# Altium schematic symbol library OltestLib.SchLib: 128 symbols (part 2 of 2)
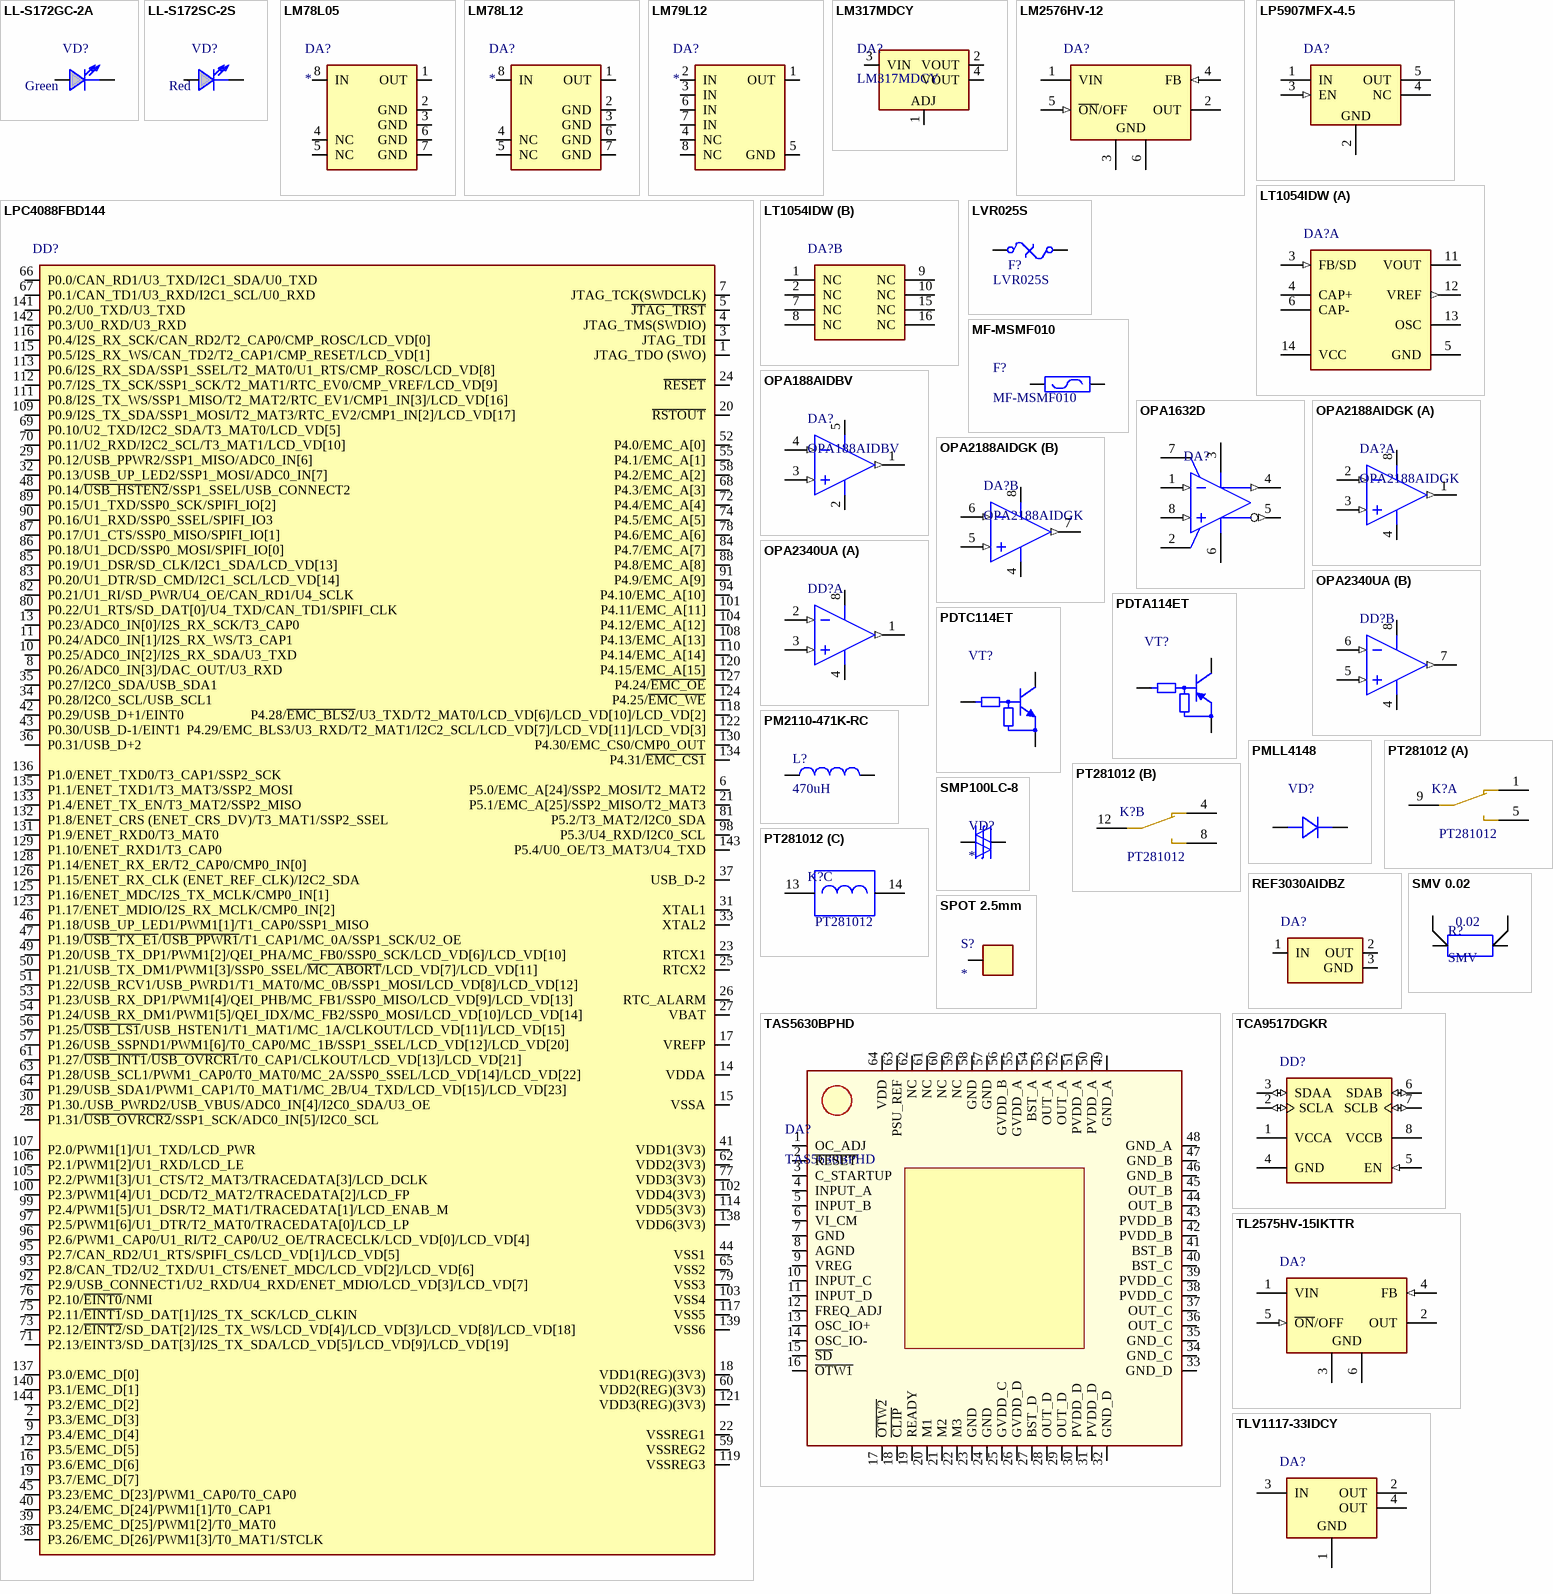
[diagram p5: symbols LL-S172GC-2A to TLV1117-33IDCY]

## PDTA114ET
designator VT?
Digital Transistor (BRT), R1=10 kOhm, R2=10 kOhm, PNP Transistor; Manufacturer: NXP; PartNumber: PDTA114ET
footprint SOT-23-3 (SOT23, 3-Leads, Body 2.92x1.3mm, Pitch 0.95mm)
pins: 1 B, 2 E, 3 C

## PDTC114ET
designator VT?
Digital Transistor (BRT), R1=10 kOhm, R2=10 kOhm, NPN Transistor; Manufacturer: On Semiconductor; PartNumber: PDTC114ET
footprint SOT-23-3 (SOT23, 3-Leads, Body 2.92x1.3mm, Pitch 0.95mm)
pins: 1 B, 2 E, 3 C

## PM2110-471K-RC
designator L?, comment 470uH
SMD Power Inductor; Manufacturer: BOURNS; PartNumber: PM2110-471K-RC; Value: 470uH
footprint PM2110
pins: 1, 2

## PMLL4148
designator VD?  (value not drawn)
If=0.2A, Vf=1V Vrrm=100V Diode (SOD80C); Manufacturer: NXP Semiconductors; PartNumber: PMLL4148
footprint SOD80C (MELF Diode, 2-Leads, Body 3,50x1,53mm, IPC Low Density)
pins: 1 ANODE, 2 CATHODE

## PT281012
designator K?
400VAC 12A DPDT 12VDC; PartNumber: 8-1415005-1; Manufacturer: TE Connectivity; Value: PT281012
footprint PT281024
part A pins: 1, 5, 9
part B pins: 4, 8, 12
part C pins: 13, 14
1 alternate drawing of the same symbol

## REF3030AIDBZ
designator DA?
3.0 V, 50 ppm / degC, 50 uA Series (Bandgap) Voltage Reference, -40 to 125 degC, 3-pin SOT-23 (DBZ); Manufacturer: Texas Instruments; PartNumber: REF3030AIDBZR
footprint TI-DBZ3_N (SOT23, 3-Leads, Body 2.92x1.3 mm, Pitch 0.95 mm, IPC Medium Density)
pins: 1 IN (power), 2 OUT (power), 3 GND (power)

## SMP100LC-8
designator VD?
SMP100LC-8; Manufacturer: ST; PartNumber: SMP100LC-8
footprint SMP100LC (SODFL, 2-Leads, Body 3,63x5,35mm, IPC Low Density)
pins: 1, 2

## SMV 0.02
designator R?, comment SMV  value 0.02
SMV 5W R020 1% 30ppm; PartNumber: SMV-R020-1.0; Manufacturer: ISABELLENHUETTE
footprint SMV
pins: 1, 2, 3, 4

## SPOT 2.5mm
designator S?
Spot d=2.5mm
footprint SPOT
pins: 1

## TAS5630BPHD
designator DA?
Power amplifier 2x300 W class-D; Manufacturer: Texas Instruments; PartNumber: TAS5630BPHD
footprint TI-PHD64_M (QFP, 64-Leads, Body 14x14mm, Pitch 0.8mm, IPC Low Density)
pins: 1 OC_ADJ, 2 ~{RESET}, 3 C_STARTUP, 4 INPUT_A, 5 INPUT_B, 6 VI_CM, 7 GND, 8 AGND, 9 VREG, 10 INPUT_C, 11 INPUT_D, 12 FREQ_ADJ, 13 OSC_IO+, 14 OSC_IO-, 15 ~{SD}, 16 ~{OTW1}, 17 ~{OTW2}, 18 ~{CLIP}, 19 READY, 20 M1, 21 M2, 22 M3, 23 GND, 24 GND, 25 GVDD_C, 26 GVDD_D, 27 BST_D, 28 OUT_D, 29 OUT_D, 30 PVDD_D, 31 PVDD_D, 32 GND_D, 33 GND_D, 34 GND_C, 35 GND_C, 36 OUT_C, 37 OUT_C, 38 PVDD_C, 39 PVDD_C, 40 BST_C, 41 BST_B, 42 PVDD_B, 43 PVDD_B, 44 OUT_B, 45 OUT_B, 46 GND_B, 47 GND_B, 48 GND_A, 49 GND_A, 50 PVDD_A, 51 PVDD_A, 52 OUT_A, 53 OUT_A, 54 BST_A, 55 GVDD_A, 56 GVDD_B, 57 GND, 58 GND, 59 NC, 60 NC, 61 NC, 62 NC, 63 PSU_REF, 64 VDD

## TCA9517DGKR
designator DD?
Level-Shifting I 2C Bus Repeater; PartNumber: TCA9517DGKR; Manufacturer: Texas Instruments
footprint DGK8_M (TSOP, 8-Leads, Body 3x3mm, Pitch 0.65mm, IPC Low Density)
pins: 1 VCCA (power) "A-side supplyVoltage (0.9V to VCCB - 1V)", 2 SCLA (io) "Serial clock bus, A side.", 3 SDAA (io) "Serial data bus, A side.", 4 GND (power) "Supply ground", 5 EN (in) "Active-high repeater enable input", 6 SDAB (io) "Serial data bus, B side. Connect to VCCB through a pullup resistor.", 7 SCLB (io) "Serial clock bus, B side. Connect to VCCB through a pullup resistor.", 8 VCCB (power) "B-side and device supplyVoltage (2.7V to 5.5V)"

## TL2575HV-15IKTTR
designator DA?
Buck Step Down Regulator with 4.75 to 60 V Input and 12 V Output, -40 to 125 degC, 5-Pin DDPAK/TO-263 (KTT), Green (RoHS & no Sb/Br); Manufacturer: Texas Instruments; PartNumber: TL2575HV-15IKTTR
footprint KTT5_M (D2-PAK, 6-Leads, Body 8.9x10.2mm, Pitch 1.7mm, Lead Span 15.2mm, IPC Low Density)
pins: 1 VIN (power), 2 OUT (power), 3 GND (power), 4 FB (in), 5 ~{ON}/OFF (in), 6 GND (power)

## TLV1117-33IDCY
designator DA?
Low-Dropout Voltage Regulator, 3.3V 0.8A Output, 4-pin SOT-223 (DCY); Manufacturer: Texas Instruments; PartNumber: TLV1117LV33DCYR
footprint TI-DCY4_M (SOT223, 4-Leads, Body 6.5x3.5mm, Pitch 2.3mm, IPC Low Density)
pins: 1 GND (power) "Ground pin", 2 OUT (power) "Regulated output voltage pin.", 3 IN (power) "Input pin.", 4 OUT (power) "Regulated output voltage pin."

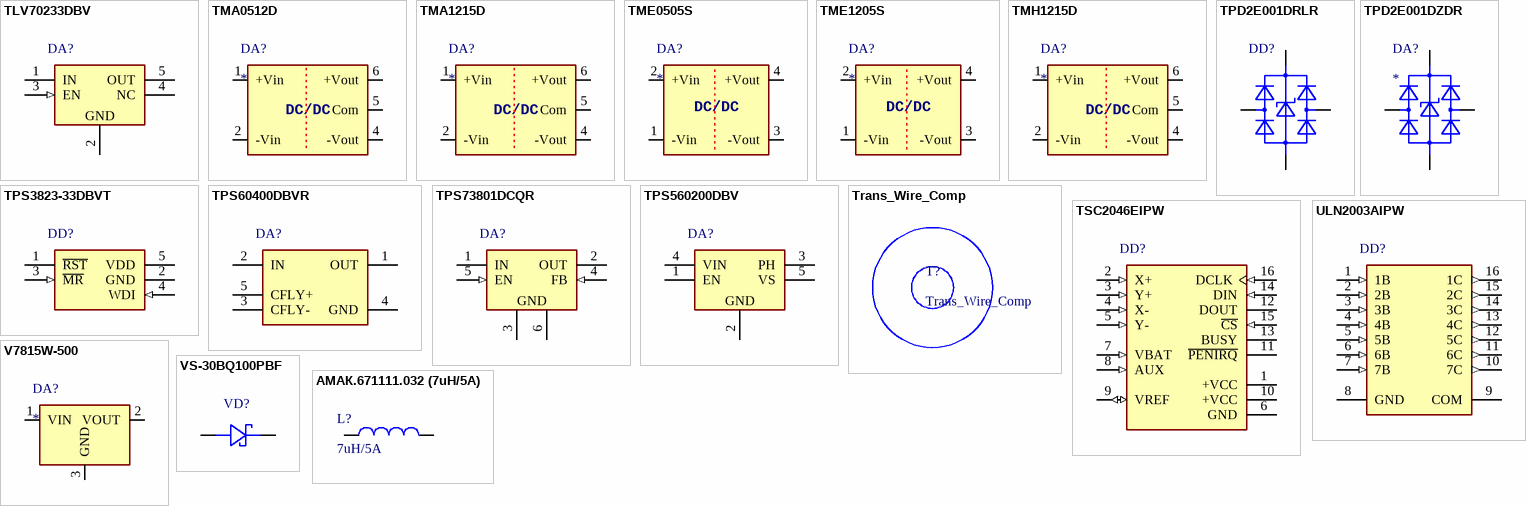
[diagram p4: symbols TLV70233DBV to АМАК.671111.032 (7uH/5A)]

## TLV70233DBV
designator DA?
Single Output LDO, 300 mA, Fixed 3.3 V Output, 2 to 5.5 V Input; Manufacturer: Texas Instruments; PartNumber: TLV70233DBV
footprint TI-DBV5_M (SOT23, 5-Leads, Body 2.9x1.6mm, Pitch 0.95mm, IPC Low Density)
pins: 1 IN (power) "Input supply voltage", 2 GND (power) "Ground", 3 EN (in) "Enable input", 4 NC "No connected", 5 OUT (power) "Regulated output voltage"

## TMA0512D
designator DA?
DC/DC; PartNumber: TMA 0512D; Manufacturer: TRACO POWER
footprint SIP6 12456
pins: 1 +Vin, 2 -Vin, 4 -Vout, 5 Com, 6 +Vout

## TMA1215D
designator DA?
DC/DC; PartNumber: TMA 1215D; Manufacturer: TRACO POWER
footprint SIP6 12456
pins: 1 +Vin, 2 -Vin, 4 -Vout, 5 Com, 6 +Vout

## TME0505S
designator DA?
DC/DC; Manufacturer: TRACO POWER; PartNumber: TME 0505S
footprint SIP4
pins: 1 -Vin, 2 +Vin, 3 -Vout, 4 +Vout

## TME1205S
designator DA?
DC/DC; Manufacturer: TRACO POWER; PartNumber: TME 1205S
footprint SIP4
pins: 1 -Vin, 2 +Vin, 3 -Vout, 4 +Vout

## TMH1215D
designator DA?
DC/DC 2W; PartNumber: TMH 1215D; Manufacturer: TRACO POWER
footprint SIP6 12456 2W
pins: 1 +Vin, 2 -Vin, 4 -Vout, 5 Com, 6 +Vout
text: DC/DC

## TPD2E001DRLR
designator DD?
Low-Capacitance + / - 15 kV ESD-Protection Array for High-Speed Data Interfaces, 2 Channels, -40 to +85 degC, 5-pin SOT (DRL), Green (RoHS & no Sb/Br); Manufacturer: Texas Instruments; PartNumber: TPD2E001DRLR
footprint DRL5_M (SOTFL, 5-Flat Leads, Body 1.2x1.6x0.6mm, Pitch 0.5mm, IPC Low Density)
pins: 1 VCC (power), 3 IO1, 4 GND (power), 5 IO2

## TPD2E001DZDR
designator DA?
2-Channel ESD-Protection for High-Speed Data Interfaces; PartNumber: TPD2E001DZDR; Manufacturer: Texas Instruments
footprint DZD
pins: 1 (power), 2, 3, 4 (power)

## TPS3823-33DBVT
designator DD?
Supervisor with Watchdog; Manufacturer: Texas Instruments; PartNumber: TPS3823-33DBVT
footprint TI-DBV5_N (SOT23, 5-Leads, Body 2.9x1.6mm, Pitch 0.95mm, IPC Medium Density)
pins: 1 ~{RST} (oc) "Open-drain reset output", 2 GND (power) "Ground", 3 ~{MR} (in) "Programmable watchdog delay input", 4 WDI (in) "Watchdog timer input. This input must be driven at all times and not left floating.", 5 VDD (power) "Selectable watchdog window ratio input. This input must be tied to VDD or GND and not left floating."

## TPS60400DBVR
designator DA?
-1.8 to -5.25 V, Inverting Charge Pump, 60 mA, 1.8 to 5.25 V Input with 2-Cell Alkaline / Nixx Input, -40 to 85 degC, 5-pin SOT23 (DBV5), Green (RoHS & no Sb/Br); Manufacturer: Texas Instruments; PartNumber: TPS60400DBVR; 2-Cell Alkaline/Nixx Input: TRUE; Efficiency(Typ)(%): 99; Iout(Max)(A): 0.06; Iq(Typ)(mA): 0.125; Switching Frequency(Max)(kHz): 450; Topology: Inverting Buck/Boost; Vin(Max)(V): 5.25; Vin(Min)(V): 1.8; Vout(Min)(V): -1.6; DatasheetVersion: SLVS324A; PackageVersion: 4073253-4/K; PackageReference: DBV5; PackageDescription: 5-Pin Plastic Small Outline, Body 1.60 Г— 2.90 mm, Pitch 0.95 mm; Eco-Plan: Green (RoHS & no Sb/Br); Vout(Max)(V): -5.25; Mounting Technology: Surface Mount; Code_JEDEC: MO-178; ComponentLink1Description: Manufacturer URL; ComponentLink1URL: http://www.ti.com/; ComponentLink2Description: Datasheet; ComponentLink2URL: http://www.ti.com/general/docs/lit/getliterature.tsp?genericPartNumber=TPS60400&fileType=pdf; ComponentLink3Description: Package Specification; ComponentLink3URL: http://www.ti.com/litv/pdf/mpds018i
footprint TI-DBV5_N (SOT23, 5-Leads, Body 2.9x1.6mm, Pitch 0.95mm, IPC Medium Density)
pins: 1 OUT (power) "Power output with VO = -VI Bypass OUT to GND with the output filter capacitor CO.", 2 IN (power) "Supply input. Connect to an input supply in the 1.6-V to 5.5-V range. Bypass IN to GND with a capacitor that has the same value as the flying capacitor.", 3 CFLY- "Negative terminal of the flying capacitor C(fly)", 4 GND (power) "Ground", 5 CFLY+ "Positive terminal of the flying capacitor C(fly)"

## TPS73801DCQR
designator DA?
1A Low Noise, Low-Dropout Linear Regulator; Manufacturer: Texas Instruments; PartNumber: TPS73801DCQR
footprint TI-DCQ6_M (SOT223, 6-Leads, Body 6.5x3.5mm, Pitch 1.27mm, IPC Low Density)
pins: 1 IN (power) "Input. Power is supplied to the device through the IN pin. A bypass capacitor is required on this pin if the device is more than six inches away from the main input filter capacitor. In general, the output impedance of a (See Datasheet)", 2 OUT (power) "Output. The output supplies power to the load. A minimum output capacitor (ceramic) of 10 uF is required to prevent oscillations. Larger output capacitors are required for applications with large transient loads to limit (See Datasheet)", 3 GND (power) "Ground", 4 FB (in) "Feedback. This is the input to the error amplifier. This pin is internally clamped to +/-7 V. It has a bias current of 3 uA that flows into the pin. The FB pin voltage is 1.21 V referenced to ground, and the output voltage (See Datasheet)", 5 EN (in) "Enable. The EN pin is used to put the TPS73801 regulators into a low-power shutdown state. The output is off when the EN pin is pulled low. The EN pin can be driven either by 5-V logic or open-collector gate, normally (See Datasheet)", 6 GND (power) "Ground"

## TPS560200DBV
designator DA?
500-mA Synchronous Step-Down Converter, 4.5-V to 17-V Input; Manufacturer: Texas Instruments; PartNumber: TPS560200DBV
footprint TI-DBV5_M (SOT23, 5-Leads, Body 2.9x1.6mm, Pitch 0.95mm, IPC Low Density)
pins: 1 EN "Enable input", 2 GND (power) "Ground", 3 PH (power) "Regulated output voltage", 4 VIN (power) "Input supply voltage", 5 VS "No connected"

## Trans_Wire_Comp
designator T?
Wire Compensation Transformer; PartNumber: AMAK; Manufacturer: Oltest
footprint Trans_M402

## TSC2046EIPW
designator DD?
Touch Screen Controller with Serial Interface; Manufacturer: Texas Instruments; PartNumber: TSC2046EIPW
footprint PW0016A_M (SOP, 16-Leads, Body 5.1x4.5mm, Pitch 0.65mm, IPC Low Density)
pins: 1 +VCC (power) "Power Supply Input. The +VCC range for the AD7873 is from 2.2 V to 5.25 V. Both +VCC pins should be connected directly together.", 2 X+ (in) "X+ Position Input. ADC Input Channel 1.", 3 Y+ (in) "Y+ Position Input. ADC Input Channel 2.", 4 X- (in) "X- Position Input.", 5 Y- (in) "Y- Position Input. ADC Input Channel 3.", 6 GND (power) "Analog Ground. Ground reference point for all circuitry on the AD7873. All analog input signals and any external reference signals should be referred to this GND voltage.", 7 VBAT (in) "Battery Monitor Input. ADC Input Channel 4.", 8 AUX (in) "Auxiliary Input. ADC Input Channel 5.", 9 VREF (io) "Reference Output for the AD7873. Alternatively, an external reference can be applied to this input. The voltage range for the external reference is 1.0 V to +VCC. For specified performance, it is 2.5 V on the AD7873. The (See Datasheet)", 10 +VCC (power) "Power Supply Input. The +VCC range for the AD7873 is from 2.2 V to 5.25 V. Both +VCC pins should be connected directly together.", 11 ~{PENIRQ} (oc) "Pen Interrupt. CMOS logic open-drain output (requires 10 k ohm to 100 k ohm pull-up resistor externally).", 12 DOUT (hiz) "Data Out. Logic output. The conversion result from the AD7873 is provided on this output as a serial data stream. The bits are clocked out on the falling edge of the DCLK input. This output is high impedance when C\S\ is (See Datasheet)", 13 BUSY (hiz) "BUSY Output. Logic output. This output is high impedance when C\S\ is high.", 14 DIN (in) "Data In. Logic Input. Data to be written to the AD7873 control register is provided on this input and is clocked into the register on the rising edge of DCLK (see the Control Register section).", 15 ~{CS} (in) "Chip Select Input. Active low logic input. This input provides the dual function of initiating conversions on the AD7873 and enabling the serial input/output register.", 16 DCLK (in) "External Clock Input. Logic input. DCLK provides the serial clock for accessing data from the part. This clock input is also used as the clock source for the AD7873 conversion process."

## ULN2003AIPW
designator DD?
Darlington Transistor Arrays, 50V, 500mA; Manufacturer: Texas Instruments; PartNumber: ULN2003AIPW
footprint PW0016A_M (SOP, 16-Leads, Body 5.1x4.5mm, Pitch 0.65mm, IPC Low Density)
pins: 1 1B (in) "X+ Position Input. ADC Input Channel 1.", 2 2B (in) "X+ Position Input. ADC Input Channel 1.", 3 3B (in) "X+ Position Input. ADC Input Channel 1.", 4 4B (in) "X+ Position Input. ADC Input Channel 1.", 5 5B (in) "X+ Position Input. ADC Input Channel 1.", 6 6B (in) "X+ Position Input. ADC Input Channel 1.", 7 7B (in) "X+ Position Input. ADC Input Channel 1.", 8 GND (power) "Analog Ground. Ground reference point for all circuitry on the AD7873. All analog input signals and any external reference signals should be referred to this GND voltage.", 9 COM (power) "Analog Ground. Ground reference point for all circuitry on the AD7873. All analog input signals and any external reference signals should be referred to this GND voltage.", 10 7C (out) "X+ Position Input. ADC Input Channel 1.", 11 6C (out) "X+ Position Input. ADC Input Channel 1.", 12 5C (out) "X+ Position Input. ADC Input Channel 1.", 13 4C (out) "X+ Position Input. ADC Input Channel 1.", 14 3C (out) "X+ Position Input. ADC Input Channel 1.", 15 2C (out) "X+ Position Input. ADC Input Channel 1.", 16 1C (out) "X+ Position Input. ADC Input Channel 1."

## V7815W-500
designator DA?
Non-isolated DC/DC; Manufacturer: CUI; PartNumber: V7815W-500
footprint V78W-500
pins: 1 VIN (power), 2 VOUT (power), 3 GND (power)

## VS-30BQ100PBF
designator VD?  (value not drawn)
3A/100V Schottky Diode (SMC); Manufacturer: VISHAY; PartNumber: VS-30BQ100PBF
footprint SMC_VD_L8.1_W6.2 (Schottky Diode, 2-Leads, Body 8,13x6,52mm, IPC Low Density)
pins: 1 ANODE, 2 CATHODE

## АМАК.671111.032 (7uH/5A)
designator L?, comment 7uH/5A
7uH/5A 5% Micrometal T94-2 (D28.5 W11.5); Manufacturer: OLTEST; PartNumber: АМАК.671111.032; Value: 7uH/5A
footprint АМАК.671111.032 (7uH/5A)
pins: 1, 2